# EAGLE library part NMJ6HHD2 (library con_neutrik_ag__Jack6,35)
1/4" stereo jack, switched, with half threaded nose and straight PCB pins
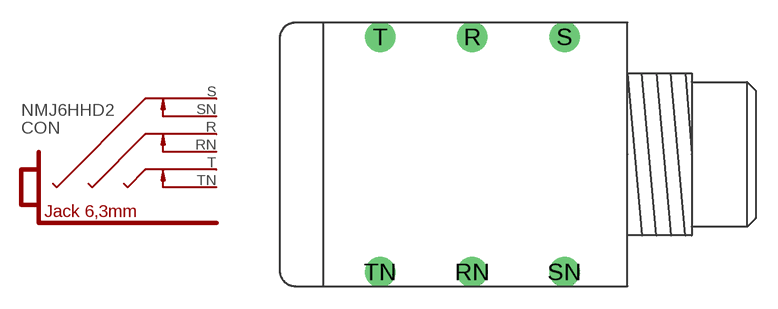
[diagram p12: symbol with the pads of NMJ6HHD2; footprint NMJ6HHD2]

Designator prefix CON

## NMJ6HHD2  [NMJ6HHD2]
R  R  pas
RN  RN  pas
S  S  pas
SN  SN  pas
T  T  pas
TN  TN  pas

## Footprint NMJ6HHD2 (pad centres in mm)
drill 1.4 round: R -10.7,8.115; RN -10.7,-8.115; S -4.35,8.115; SN -4.35,-8.115; T -17.05,8.115; TN -17.05,-8.115